# EAGLE library part MP4559 (library voltage_regulators)
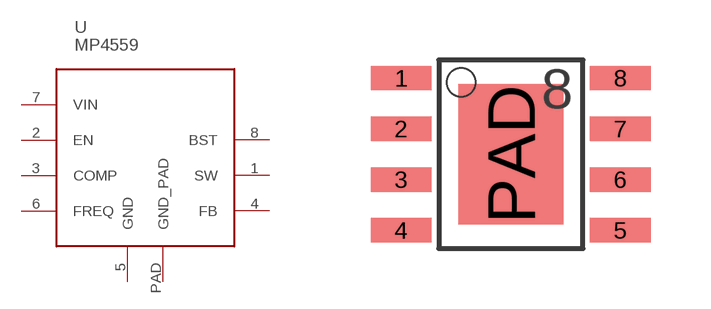
[diagram p3: symbol with the pads of SO-8_PAD; footprint SO-8_PAD]

Designator prefix -

## MP4559  [SO-8_PAD]
1  SW
2  EN
3  COMP
4  FB
5  GND
6  FREQ
7  VIN
8  BST
PAD  GND_PAD

## Footprint SO-8_PAD (pad centres in mm)
smd 1.524 x 0.61: 1 -2.743,1.905; 2 -2.743,0.635; 3 -2.743,-0.635; 4 -2.743,-1.905; 5 2.743,-1.905; 6 2.743,-0.635; 7 2.743,0.635; 8 2.743,1.905
smd 2.616 x 3.505: PAD 0,0